# Altium integrated library IC_INTERFACE_LIB.IntLib: 3 symbols
Pins are listed as number, name and electrical type; pins without a type are passive.

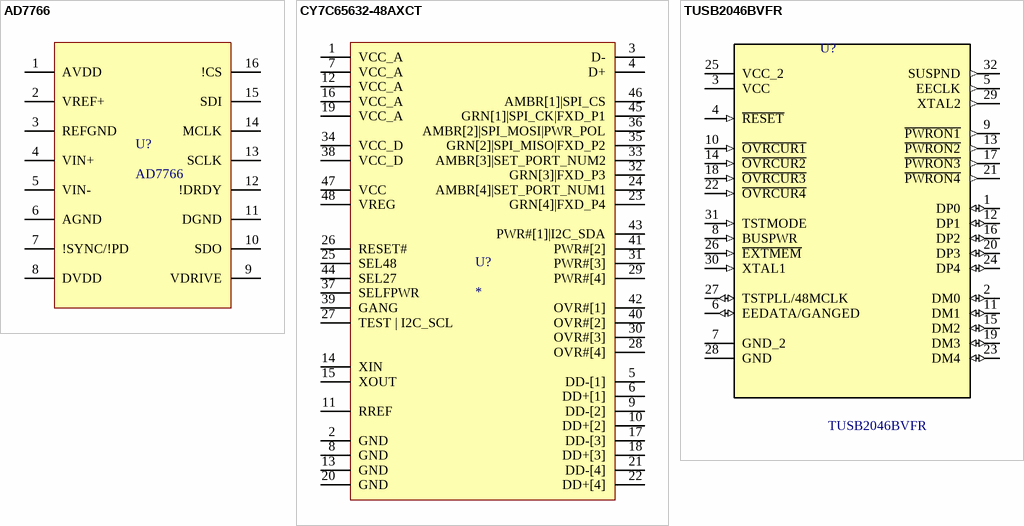
[diagram p0: symbols AD7766 to TUSB2046BVFR]

## AD7766
designator U?
24 Bit Analog to Digital Converter 1 Input 1 SAR 16-TSSOP
footprint TSSOP-16
pins: 1 AVDD, 2 VREF+, 3 REFGND, 4 VIN+, 5 VIN-, 6 AGND, 7 !SYNC/!PD, 8 DVDD, 9 VDRIVE, 10 SDO, 11 DGND, 12 !DRDY, 13 SCLK, 14 MCLK, 15 SDI, 16 !CS

## CY7C65632-48AXCT
designator U?
footprint TQFP-48
pins: 1 VCC_A, 2 GND, 3 D-, 4 D+, 5 DD-[1], 6 DD+[1], 7 VCC_A, 8 GND, 9 DD-[2], 10 DD+[2], 11 RREF, 12 VCC_A, 13 GND, 14 XIN, 15 XOUT, 16 VCC_A, 17 DD-[3], 18 DD+[3], 19 VCC_A, 20 GND, 21 DD-[4], 22 DD+[4], 23 GRN[4]|FXD_P4, 24 AMBR[4]|SET_PORT_NUM1, 25 SEL48, 26 RESET#, 27 TEST | I2C_SCL, 28 OVR#[4], 29 PWR#[4], 30 OVR#[3], 31 PWR#[3], 32 GRN[3]|FXD_P3, 33 AMBR[3]|SET_PORT_NUM2, 34 VCC_D, 35 GRN[2]|SPI_MISO|FXD_P2, 36 AMBR[2]|SPI_MOSI|PWR_POL, 37 SELFPWR, 38 VCC_D, 39 GANG, 40 OVR#[2], 41 PWR#[2], 42 OVR#[1], 43 PWR#[1]|I2C_SDA, 44 SEL27, 45 GRN[1]|SPI_CK|FXD_P1, 46 AMBR[1]|SPI_CS, 47 VCC, 48 VREG

## TUSB2046BVFR
designator U?
4-Port USB 2.0 12 Mbps USB Hub 32-LQFP 0 to 70; MF: Texas Instruments; Price: 2.39 USD; SnapEDA_Link: https://www.snapeda.com/parts/TUSB2046BVFR/Texas%20Instruments/view-part/?ref=snap; Availability: Good; MP: TUSB2046BVFR; Package: LQFP-32 Texas Instruments; Value: *
footprint QFP80P900X900X145-32N
pins: 1 DP0 (io), 2 DM0 (io), 3 VCC (power), 4 ~{RESET} (in), 5 EECLK (out), 6 EEDATA/GANGED (io), 7 GND_2, 8 BUSPWR (in), 9 ~{PWRON1} (out), 10 ~{OVRCUR1} (in), 11 DM1 (io), 12 DP1 (io), 13 ~{PWRON2} (out), 14 ~{OVRCUR2} (in), 15 DM2 (io), 16 DP2 (io), 17 ~{PWRON3} (out), 18 ~{OVRCUR3} (in), 19 DM3 (io), 20 DP3 (io), 21 ~{PWRON4} (out), 22 ~{OVRCUR4} (in), 23 DM4 (io), 24 DP4 (io), 25 VCC_2 (power), 26 ~{EXTMEM} (in), 27 TSTPLL/48MCLK (io), 28 GND, 29 XTAL2 (out), 30 XTAL1 (in), 31 TSTMODE (in), 32 SUSPND (out)